# Altium schematic symbol library Switches.SchLib: 1 symbol
Pins are listed as number, name and electrical type; pins without a type are passive.

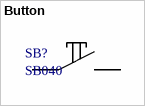
[diagram p0: symbol Button]

## Button
designator SB?, comment SB040
SB040 RED IP65 on-off ф20.2mm; Name: Включатель; Case: *; HelpURL: https://www.chipdip.ru/product0/8007160447; Model: SB040 RED; Value: SB040
pins: 1, 2